# Altium footprint library Trans_Coilcraft_ JA4220-AL_250mA.PcbLib: 1 footprints
Each footprint in its own frame and in the unit in brackets; x right, y up, seen from the top. Pads: shape width x height; smd on the part's side, far side on the other; paste and mask are expansions set on the pad; w line width, h text height; cw(c..) or ccw(c..) is an arc to the next point about the centre after c.
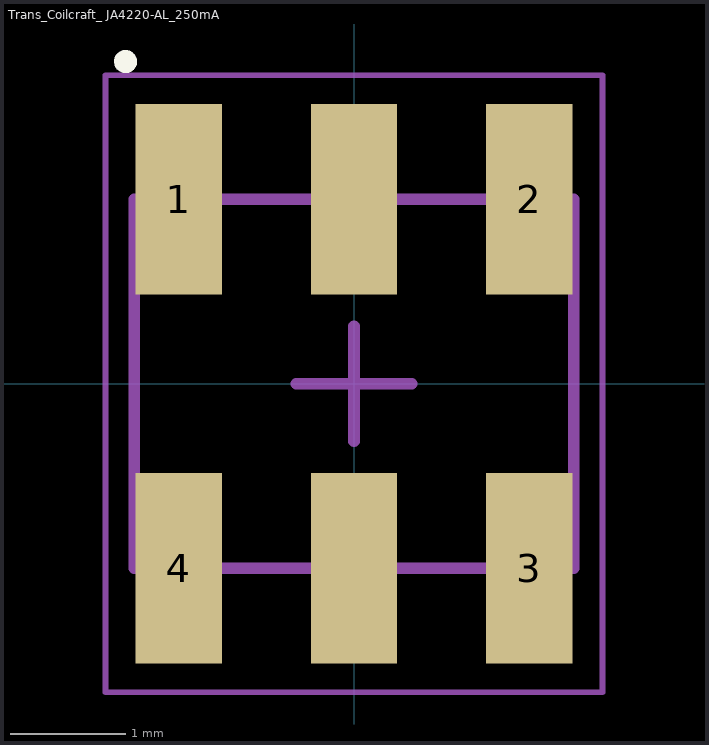
[diagram p0: the footprint, top view; thin cyan lines are the x and y axes]

## Trans_Coilcraft_ JA4220-AL_250mA [mm] "Very wide 3 dB bandwidth: 0.1 MHz to 3.5 GHz.  250 mA max current rating, 1/4 Watt RF input power rating"
height 3.05
pads (6):
  rect 0.75x1.65 smd: 1(-1.52,1.6) 2(1.52,1.6) 3(1.52,-1.6) 4(-1.52,-1.6) ""(0,-1.6) ""(0,1.6)
Top Overlay:
  lines w0.1: -2.032,2.794 cw(c-1.982,2.794) -2.026,2.77
Mechanical 13:
  lines w0.1: -1.905,-1.6 1.905,-1.6 1.905,1.6 -1.905,1.6 -1.905,-1.6
Mechanical 15:
  lines w0.05: -2.155,-2.675 2.155,-2.675 2.155,2.675 -2.155,2.675 -2.155,-2.675
  lines w0.1: -0.5,0 0.5,0 ; 0,-0.5 0,0.5
3D body "Coilcraft-JA4220-AL.STEP": height 3.03, standoff -0.02, extent -1.905,-1.905 1.905,1.905